# Altium footprint library Diode_SMD.PcbLib: 19 footprints (part 2 of 2)
Each footprint in its own frame and in the unit in brackets; x right, y up, seen from the top. Pads: shape width x height; smd on the part's side, far side on the other; paste and mask are expansions set on the pad; w line width, h text height; cw(c..) or ccw(c..) is an arc to the next point about the centre after c.
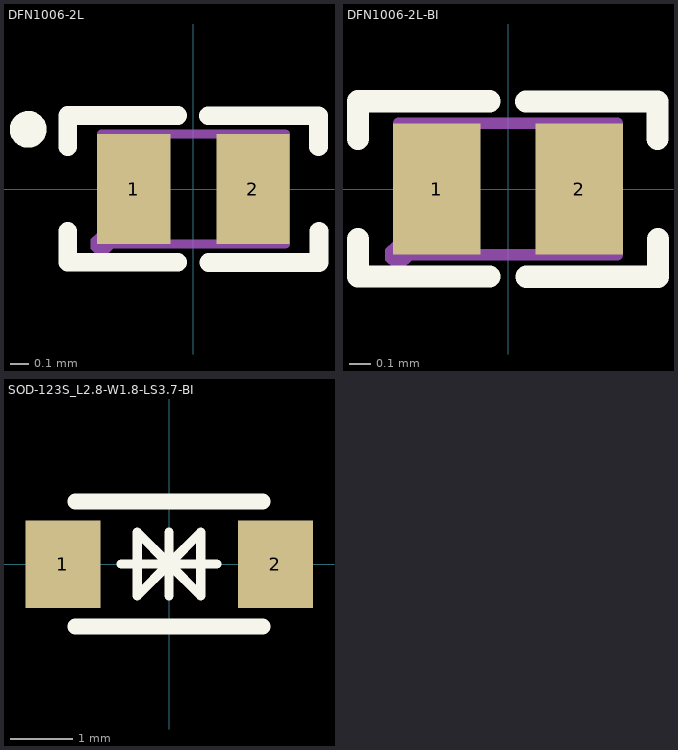
[diagram p1: the footprints below, top view; thin cyan lines are the x and y axes]

## DFN1006-2L [mm]
pads (2):
  rect 0.4x0.6 smd mask+0.051: 1(-0.325,0) 2(0.325,0)
Top Overlay:
  circle w0.1: c-0.9,0.325 r0.05
  lines w0.102: -0.685,-0.23 -0.685,-0.4 -0.085,-0.4 ; -0.685,0.23 -0.685,0.4 -0.085,0.4 ; 0.082,0.4 0.682,0.4 0.682,0.23 ; 0.085,-0.4 0.685,-0.4 0.685,-0.23
Mechanical 15:
  region: -0.44,-0.3 -0.44,-0.275 -0.475,-0.24 -0.525,-0.24 -0.56,-0.275 -0.56,-0.3 -0.56,-0.325 -0.525,-0.36 -0.475,-0.36 -0.44,-0.325 -0.44,-0.3
  region: -0.475,0.254 -0.225,0.254 -0.225,-0.254 -0.475,-0.254
  region: 0.225,0.254 0.475,0.254 0.475,-0.254 0.225,-0.254
  lines w0.051: -0.5,-0.3 0.5,-0.3 0.5,0.3 -0.5,0.3 -0.5,-0.3
3D body "DFN65P100X45-2M.step": height 0.45, standoff 0, extent -0.525,-0.325 0.525,0.325

## DFN1006-2L-BI [mm]
pads (2):
  rect 0.4x0.6 smd mask+0.051: 1(-0.325,0) 2(0.325,0)
Top Overlay:
  lines w0.102: -0.685,-0.23 -0.685,-0.4 -0.085,-0.4 ; -0.685,0.23 -0.685,0.4 -0.085,0.4 ; 0.082,0.4 0.682,0.4 0.682,0.23 ; 0.085,-0.4 0.685,-0.4 0.685,-0.23
Mechanical 15:
  region: 0.225,0.254 0.475,0.254 0.475,-0.254 0.225,-0.254
  region: -0.475,0.254 -0.225,0.254 -0.225,-0.254 -0.475,-0.254
  region: -0.44,-0.3 -0.44,-0.275 -0.475,-0.24 -0.525,-0.24 -0.56,-0.275 -0.56,-0.3 -0.56,-0.325 -0.525,-0.36 -0.475,-0.36 -0.44,-0.325 -0.44,-0.3
  lines w0.051: -0.5,-0.3 -0.5,0.3 0.5,0.3 0.5,-0.3 -0.5,-0.3
3D body "DFN65P100X45-2M.step": height 0.45, standoff 0, extent -0.525,-0.325 0.525,0.325

## SOD-123S_L2.8-W1.8-LS3.7-BI [mm]
pads (2):
  rect 1.2x1.4 smd: 1(-1.7,0) 2(1.7,0)
Top Overlay:
  lines w0.15: -0.762,0 0.762,0 ; 0,-0.508 0,0.508 ; 0,-0.254 0,0.254 ; 0,0 -0.508,0.508 -0.508,-0.508 0,0 ; 0,0 0.508,-0.508 0.508,0.508 0,0
  lines w0.254: -1.5,-1 1.5,-1 ; -1.5,1 1.5,1
3D body "3D_PCB1_2022-04-16.stp": height 0.98, standoff 0, extent -1.85,-0.9 1.85,0.9